# Altium schematic symbol library KF.SchLib: 2 symbols
Pins are listed as number, name and electrical type; pins without a type are passive.

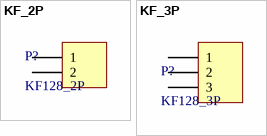
[diagram p0: symbols KF_2P to KF_3P]

## KF_2P
designator P?, comment KF128_2P
footprint KF128_2P
footprint KF301_2P
footprint KF350_2P
footprint KF45C-9.5-2P
pins: 1, 2

## KF_3P
designator P?, comment KF128_3P
footprint KF128_3P
footprint KF301_3P
footprint KF350_3P
pins: 1, 2, 3